# Altium integrated library LL4148.IntLib: 1 symbol
Pins are listed as number, name and electrical type; pins without a type are passive.

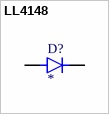
[diagram p0: symbol LL4148]

## LL4148
designator D?
Diode Standard 100 V 300mA Surface Mount SOD-80 MiniMELF; MF: onsemi; MP: LL4148; SnapEDA_Link: https://www.snapeda.com/parts/LL4148/Onsemi/view-part/?ref=snap; Package: SOD-80-2 ON Semiconductor; Value: *; Check_prices: https://www.snapeda.com/parts/LL4148/Onsemi/view-part/?ref=eda
footprint DIO_LL4148
pins: A, C